# EAGLE library part 16SEG (library IsaacAlonso)
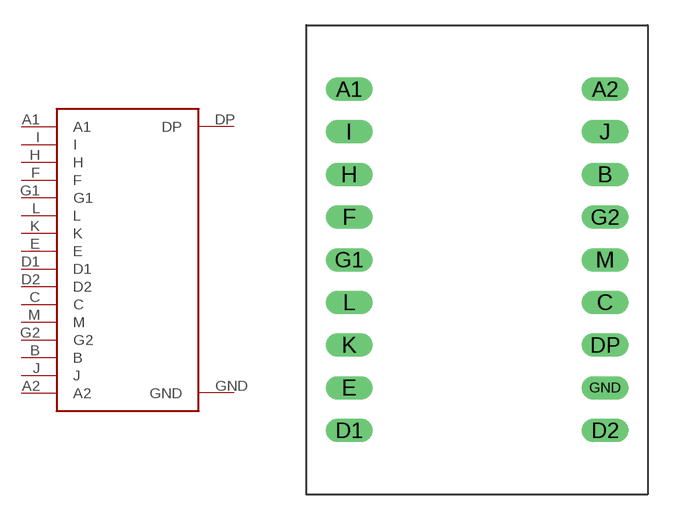
[diagram p6: symbol with the pads of 16SEG; footprint 16SEG]

Designator prefix -

## 16SEG  [16SEG]
A1  A1
A2  A2
B  B
C  C
D1  D1
D2  D2
DP  DP
E  E
F  F
G1  G1
G2  G2
GND  GND
H  H
I  I
J  J
K  K
L  L
M  M

## Footprint 16SEG (pad centres in mm)
drill 0.711 pad 1.397 long: A1 -7.62,10.16; A2 7.62,10.16; B 7.62,5.08; C 7.62,-2.54; D1 -7.62,-10.16; D2 7.62,-10.16; DP 7.62,-5.08; E -7.62,-7.62; F -7.62,2.54; G1 -7.62,0; G2 7.62,2.54; GND 7.62,-7.62; H -7.62,5.08; I -7.62,7.62; J 7.62,7.62; K -7.62,-5.08; L -7.62,-2.54; M 7.62,0